# Altium schematic symbol library 502.Schlib: 1 symbol
Pins are listed as number, name and electrical type; pins without a type are passive.

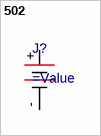
[diagram p0: symbol 502]

## 502
designator J?
HOLDER BATT PC COIN 1CELL 16MM
pins: +, -